# Altium integrated library DS1307.IntLib: 1 symbol
Pins are listed as number, name and electrical type; pins without a type are passive.

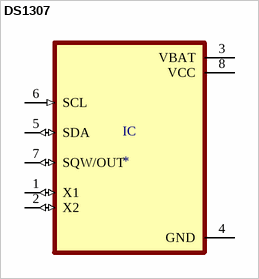
[diagram p0: symbol DS1307]

## DS1307
designator IC
Real Time Clock _RTC_ IC Clock/Calendar 56B IÂ²C, 2-Wire Serial 8-DIP _0.300, 7.62mm_; MF: Maxim Integrated; MP: DS1307; Value: *; Package: DIP-8 Maxim Integrated; Availability: Unavailable; SnapEDA_Link: https://www.snapeda.com/parts/DS1307/Maxim%20Integrated/view-part/9751/?ref=snap; Price: None
footprint DIP794W47P254L991H457Q8
pins: 1 X1 (io), 2 X2 (io), 3 VBAT (power), 4 GND (power), 5 SDA (io), 6 SCL (in), 7 SQW/OUT (io), 8 VCC (power)